# EAGLE library part 2X4 (library stiftleisten)
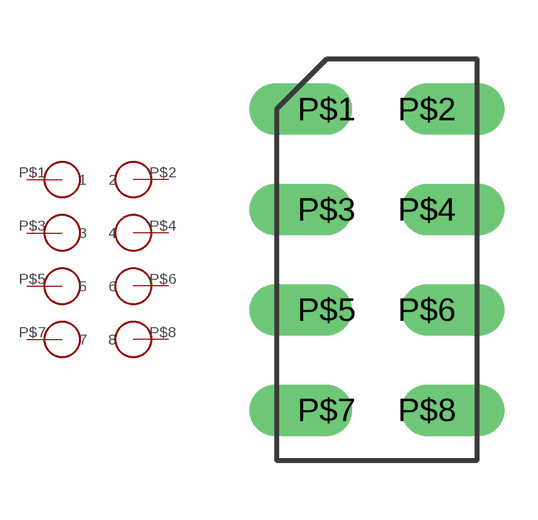
[diagram p1: symbol with the pads of 2X4; footprint 2X4]

Designator prefix -

## 2X4  [2X4]
P$1  1
P$2  2
P$3  3
P$4  4
P$5  5
P$6  6
P$7  7
P$8  8

## Footprint 2X4 (pad centres in mm)
drill 0.8 offset: P$1 -1.27,3.81; P$2 1.27,3.81; P$3 -1.27,1.27; P$4 1.27,1.27; P$5 -1.27,-1.27; P$6 1.27,-1.27; P$7 -1.27,-3.81; P$8 1.27,-3.81